# Altium schematic symbol library KFA-1016-10-16-2P.SchLib: 1 symbol
Pins are listed as number, name and electrical type; pins without a type are passive.

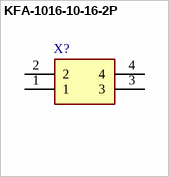
[diagram p0: symbol KFA-1016-10-16-2P]

## KFA-1016-10-16-2P
designator X?
pins: 1, 2, 3, 4